# EAGLE library part LM3S3826 (library CEDTv79)
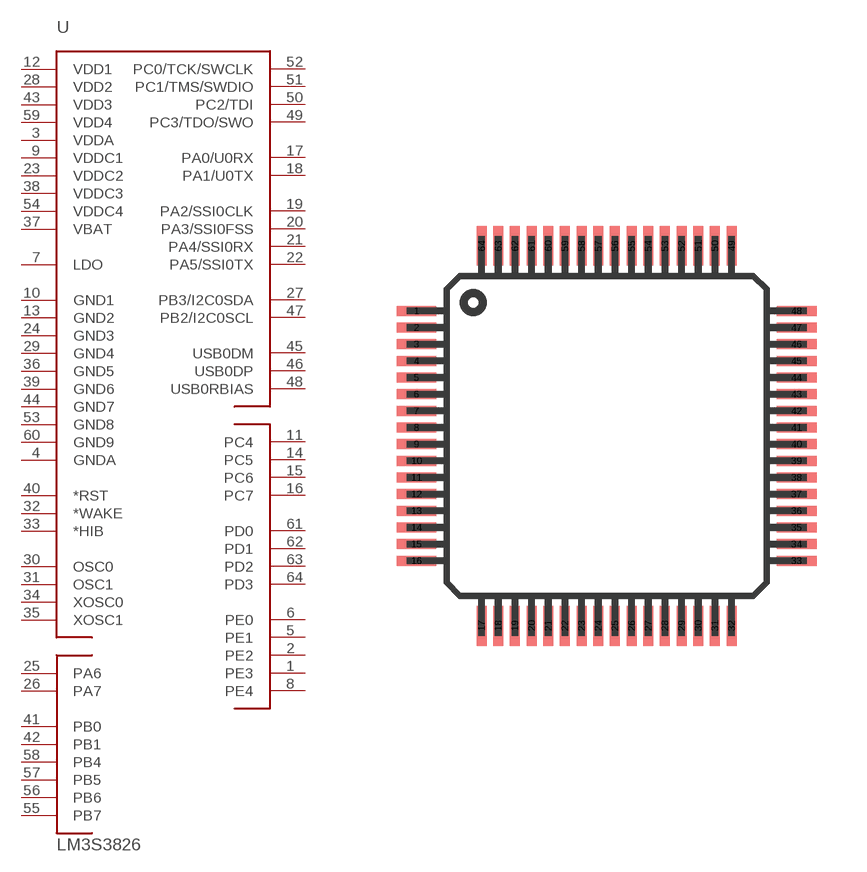
[diagram p48: symbol with the pads of LQFP64-S-PQFP-G64; footprint LQFP64-S-PQFP-G64]

Designator prefix -

## LM3S3826  [LQFP64-S-PQFP-G64]
1  PE3  pas
2  PE2  pas
3  VDDA  pas
4  GNDA  pas
5  PE1  pas
6  PE0  pas
7  LDO  pas
8  PE4  pas
9  VDDC1  pas
10  GND1  pas
11  PC4  pas
12  VDD1  pas
13  GND2  pas
14  PC5  pas
15  PC6  pas
16  PC7  pas
17  PA0/U0RX  pas
18  PA1/U0TX  pas
19  PA2/SSI0CLK  pas
20  PA3/SSI0FSS  pas
21  PA4/SSI0RX  pas
22  PA5/SSI0TX  pas
23  VDDC2  pas
24  GND3  pas
25  PA6  pas
26  PA7  pas
27  PB3/I2C0SDA  pas
28  VDD2  pas
29  GND4  pas
30  OSC0  pas
31  OSC1  pas
32  *WAKE  pas
33  *HIB  pas
34  XOSC0  pas
35  XOSC1  pas
36  GND5  pas
37  VBAT  pas
38  VDDC3  pas
39  GND6  pas
40  *RST  pas
41  PB0  pas
42  PB1  pas
43  VDD3  pas
44  GND7  pas
45  USB0DM  pas
46  USB0DP  pas
47  PB2/I2C0SCL  pas
48  USB0RBIAS  pas
49  PC3/TDO/SWO  pas
50  PC2/TDI  pas
51  PC1/TMS/SWDIO  pas
52  PC0/TCK/SWCLK  pas
53  GND8  pas
54  VDDC4  pas
55  PB7  pas
56  PB6  pas
57  PB5  pas
58  PB4  pas
59  VDD4  pas
60  GND9  pas
61  PD0  pas
62  PD1  pas
63  PD2  pas
64  PD3  pas

## Footprint LQFP64-S-PQFP-G64 (pad centres in mm)
smd 1.2 x 0.3: 1 -5.7,3.75; 2 -5.7,3.25; 3 -5.7,2.75; 4 -5.7,2.25; 5 -5.7,1.75; 6 -5.7,1.25; 7 -5.7,0.75; 8 -5.7,0.25; 9 -5.7,-0.25; 10 -5.7,-0.75; 11 -5.7,-1.25; 12 -5.7,-1.75; 13 -5.7,-2.25; 14 -5.7,-2.75; 15 -5.7,-3.25; 16 -5.7,-3.75; 33 5.7,-3.75; 34 5.7,-3.25; 35 5.7,-2.75; 36 5.7,-2.25; 37 5.7,-1.75; 38 5.7,-1.25; 39 5.7,-0.75; 40 5.7,-0.25; 41 5.7,0.25; 42 5.7,0.75; 43 5.7,1.25; 44 5.7,1.75; 45 5.7,2.25; 46 5.7,2.75; 47 5.7,3.25; 48 5.7,3.75
smd 0.3 x 1.2: 17 -3.75,-5.7; 18 -3.25,-5.7; 19 -2.75,-5.7; 20 -2.25,-5.7; 21 -1.75,-5.7; 22 -1.25,-5.7; 23 -0.75,-5.7; 24 -0.25,-5.7; 25 0.25,-5.7; 26 0.75,-5.7; 27 1.25,-5.7; 28 1.75,-5.7; 29 2.25,-5.7; 30 2.75,-5.7; 31 3.25,-5.7; 32 3.75,-5.7; 49 3.75,5.7; 50 3.25,5.7; 51 2.75,5.7; 52 2.25,5.7; 53 1.75,5.7; 54 1.25,5.7; 55 0.75,5.7; 56 0.25,5.7; 57 -0.25,5.7; 58 -0.75,5.7; 59 -1.25,5.7; 60 -1.75,5.7; 61 -2.25,5.7; 62 -2.75,5.7; 63 -3.25,5.7; 64 -3.75,5.7